# Altium footprint library 4.7uH.PcbLib: 1 footprints
Each footprint in its own frame and in the unit in brackets; x right, y up, seen from the top. Pads: shape width x height; smd on the part's side, far side on the other; paste and mask are expansions set on the pad; w line width, h text height; cw(c..) or ccw(c..) is an arc to the next point about the centre after c.
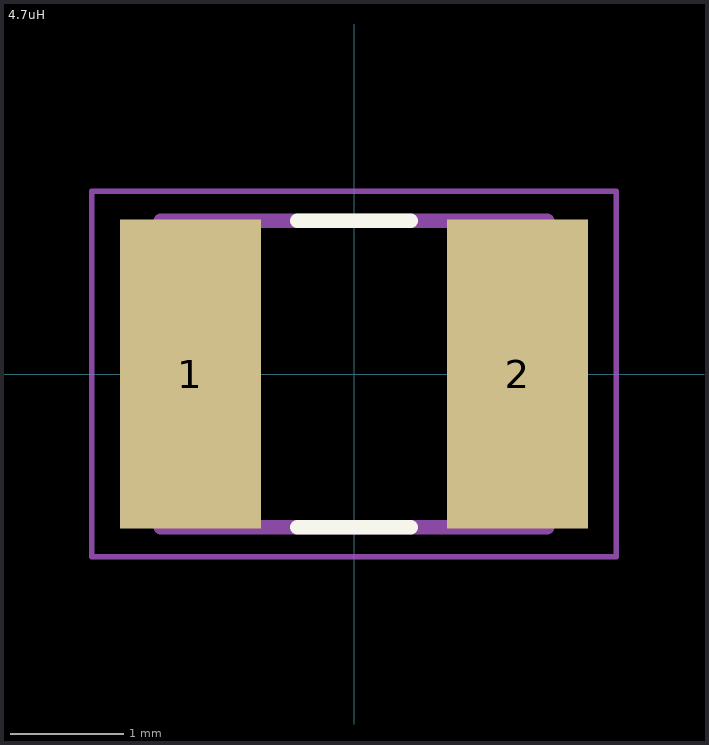
[diagram p0: the footprint, top view; thin cyan lines are the x and y axes]

## 4.7uH [mm]
pads (2):
  rect 1.24x2.72 smd: 1(-1.44,0) 2(1.44,0)
Top Overlay:
  lines w0.127: -0.5,-1.35 0.5,-1.35 ; -0.5,1.35 0.5,1.35
Mechanical 13:
  lines w0.127: -1.7,-1.35 -1.7,1.35 1.7,1.35 1.7,-1.35 -1.7,-1.35
Mechanical 15:
  lines w0.05: -2.308,-1.608 -2.308,1.608 2.308,1.608 2.308,-1.608 -2.308,-1.608